# EAGLE library part 8P8CS (library modular-jack)
8P8C with shield
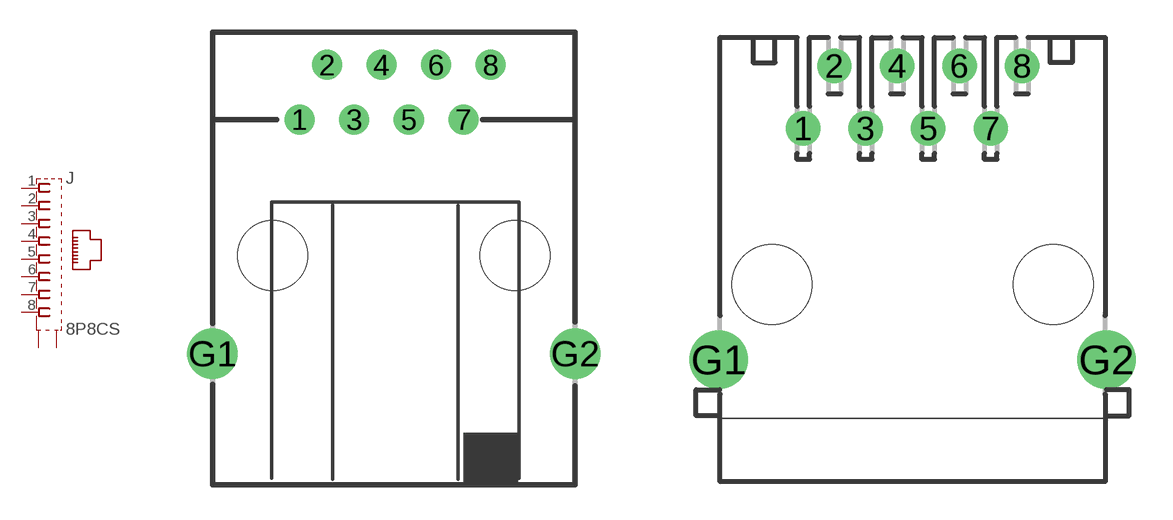
[diagram p3: symbol with the pads of 558310-1; footprints 558310-1, 555153-1]

Designator prefix J

## 8P8CS-KEY  [558310-1]
1  1  pas
2  2  pas
3  3  pas
4  4  pas
5  5  pas
6  6  pas
7  7  pas
8  8  pas
G1  S2  pas
G2  S1  pas

## 8P8CS-PS  [555153-1]
Pads as for 558310-1

## 8P8CS-V  [557730-1]
1  1  pas
2  2  pas
3  3  pas
4  4  pas
5  5  pas
6  6  pas
7  7  pas
8  8  pas
G1  S1  pas
G2  S2  pas

## Footprint 558310-1 (pad centres in mm)
Modular Jack Keyed Shielded
drill 0.889 round: 1 -4.445,6.35; 2 -3.175,8.89; 3 -1.905,6.35; 4 -0.635,8.89; 5 0.635,6.35; 6 1.905,8.89; 7 3.175,6.35; 8 4.445,8.89
drill 1.575 pad 2.184 round: G1 -8.509,-4.572; G2 8.382,-4.572
hole 3.251 at -5.715,0
hole 3.251 at 5.588,0

## Footprint 555153-1 (pad centres in mm)
Modular Jack PC Board Ground
drill 0.889 round: 1 -4.445,6.35; 2 -3.175,8.89; 3 -1.905,6.35; 4 -0.635,8.89; 5 0.635,6.35; 6 1.905,8.89; 7 3.175,6.35; 8 4.445,8.89
drill 1.575 pad 2.184 round: G1 -7.874,-3.048; G2 7.874,-3.048
hole 3.251 at -5.715,0
hole 3.251 at 5.715,0

## Footprint 557730-1 (pad centres in mm)
Modular Jack Keyed - Shielded with Panel Stops
drill 0.889 round: 1 -4.445,6.35; 2 -3.175,8.89; 3 -1.905,6.35; 4 -0.635,8.89; 5 0.635,6.35; 6 1.905,8.89; 7 3.175,6.35; 8 4.445,8.89
drill 1.524 pad 2.54 round: G1 -7.874,2.946; G2 7.874,2.946
hole 3.251 at -5.715,0
hole 3.251 at 5.715,0